# EAGLE library part PCA9685PW (library 0_Rpi3_RevA)
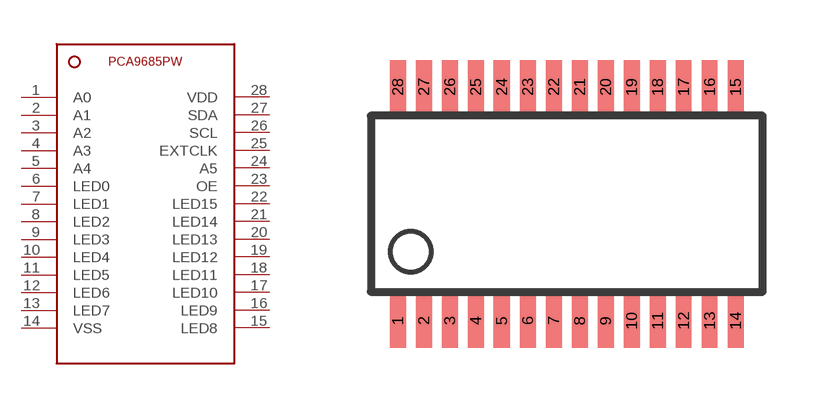
[diagram p1: symbol with the pads of TSSOP28; footprint TSSOP28]

Designator prefix -

## PCA9685PW  [TSSOP28]
1  A0
2  A1
3  A2
4  A3
5  A4
6  LED0
7  LED1
8  LED2
9  LED3
10  LED4
11  LED5
12  LED6
13  LED7
14  VSS
15  LED8
16  LED9
17  LED10
18  LED11
19  LED12
20  LED13
21  LED14
22  LED15
23  OE
24  A5
25  EXTCLK
26  SCL
27  SDA
28  VDD

## Footprint TSSOP28 (pad centres in mm)
smd 0.4 x 1.35: 1 1.236,-0.385; 2 1.886,-0.385; 3 2.536,-0.385; 4 3.186,-0.385; 5 3.836,-0.385; 6 4.486,-0.385; 7 5.136,-0.385; 8 5.786,-0.385; 9 6.436,-0.385; 10 7.086,-0.385; 11 7.736,-0.385; 12 8.386,-0.385; 13 9.036,-0.385; 14 9.686,-0.385; 15 9.686,5.465; 16 9.036,5.465; 17 8.386,5.465; 18 7.736,5.465; 19 7.086,5.465; 20 6.436,5.465; 21 5.786,5.465; 22 5.136,5.465; 23 4.486,5.465; 24 3.836,5.465; 25 3.186,5.465; 26 2.536,5.465; 27 1.886,5.465; 28 1.236,5.465